# Altium footprint library OSHW_CAP_Altium_Vault_Generic_20201223.PcbLib: 129 footprints (part 9 of 9)
Each footprint in its own frame and in the unit in brackets; x right, y up, seen from the top. Pads: shape width x height; smd on the part's side, far side on the other; paste and mask are expansions set on the pad; w line width, h text height; cw(c..) or ccw(c..) is an arc to the next point about the centre after c.
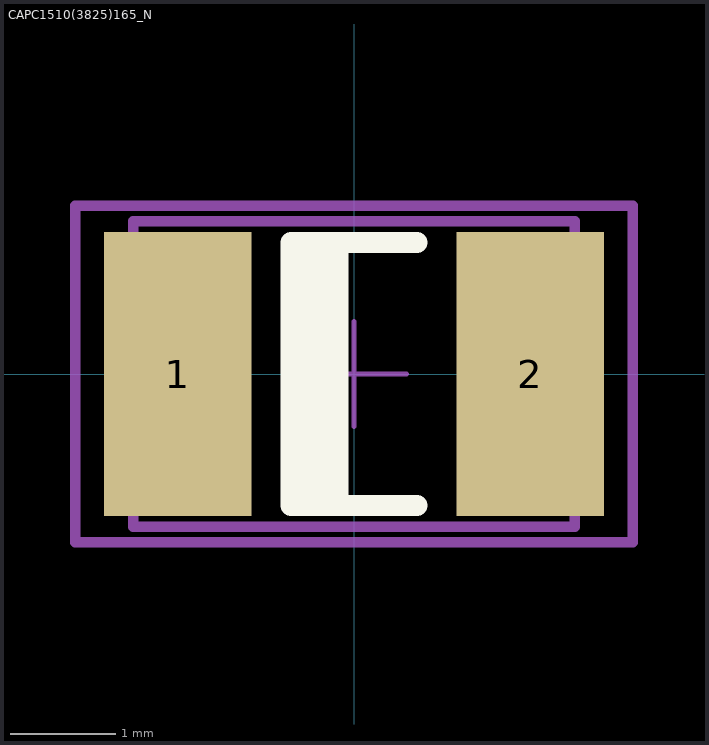
[diagram p8: the footprint, top view; thin cyan lines are the x and y axes]

## CAPC1510(3825)165_N [mm] "Chip Capacitor, Body 3.8x2.5mm, Height 1.65mm, IPC Medium Density"
height 1.65
pads (2):
  rect 1.4x2.7 smd: 1(-1.675,0) 2(1.675,0)
Top Overlay:
  rectangle: -0.6,-1.25 -0.05,1.25
  lines w0.2: 0.6,-1.25 -0.6,-1.25 -0.6,1.25 0.6,1.25
Top Assembly:
  lines w0.1: -2.65,-1.6 -2.65,1.6 2.65,1.6 2.65,-1.6 -2.65,-1.6
  text "'.Designator'" at 0,0 h1
Top Courtyard:
  lines w0.05: -0.5,0 0.5,0 ; 0,-0.5 0,0.5 ; -2.65,-1.6 -2.65,1.6 2.65,1.6 2.65,-1.6 -2.65,-1.6
Top Component Outline:
  lines w0.1: -2.1,-1.45 2.1,-1.45 2.1,1.45 -2.1,1.45 -2.1,-1.45
3D body: height 1.65, standoff 0, extent 1.34,-1.45 2.1,1.45
3D body: height 1.65, standoff 0, extent -2.1,-1.45 -1.34,1.45
3D body: height 1.65, standoff 0, extent -1.34,-1.45 1.34,1.45